# Altium schematic symbol library prj-schlib.SCHLIB: 13 symbols
Pins are listed as number, name and electrical type; pins without a type are passive.

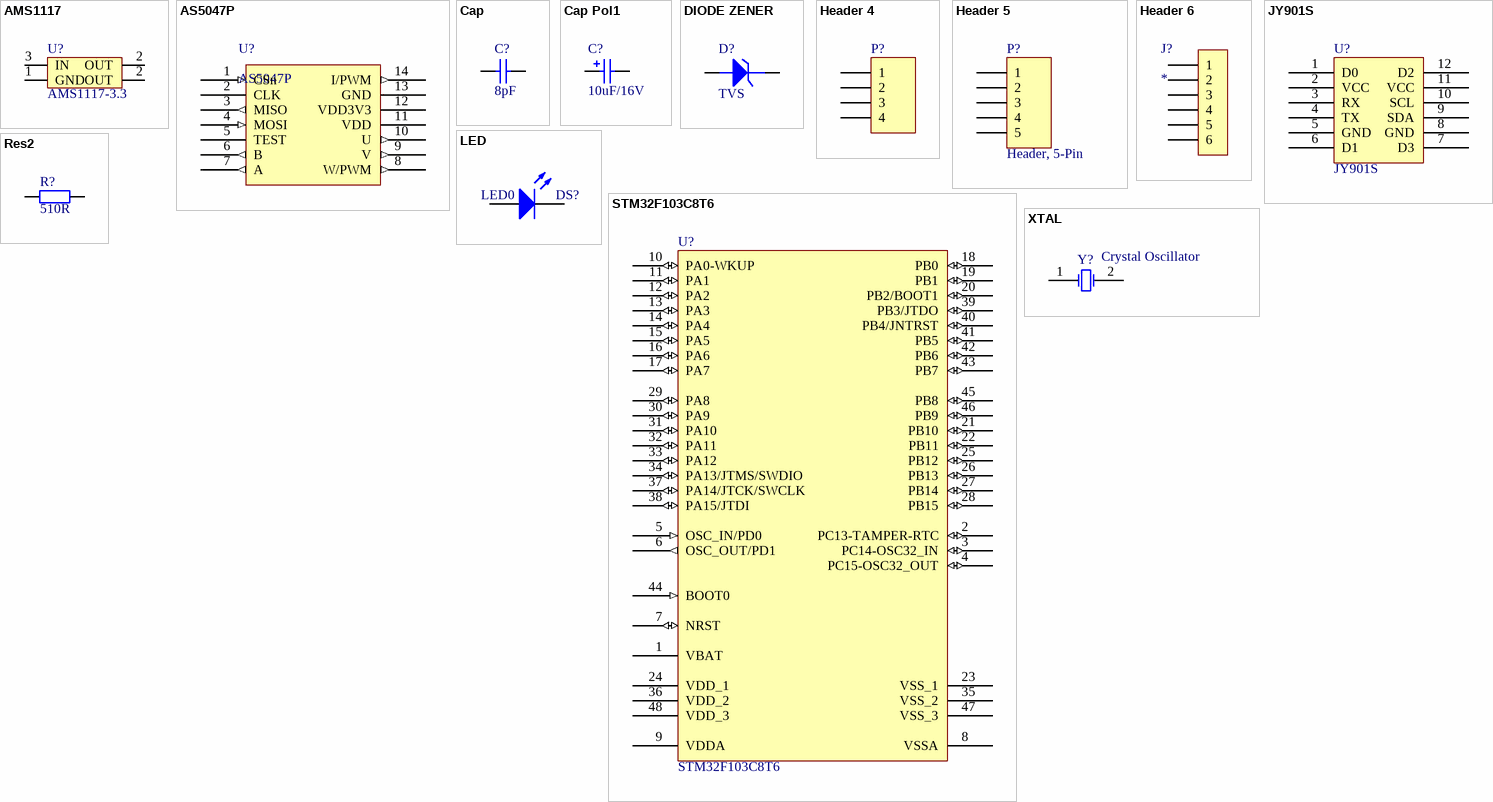
[diagram p0: symbols AMS1117 to XTAL]

## AMS1117
designator U?, comment AMS1117-3.3
footprint SOT223
pins: 1 GND, 2 OUT, 2 OUT, 3 IN
2 alternate drawings of the same symbol

## AS5047P
designator U?
footprint TSSOP-14
pins: 1 CSn (in), 2 CLK, 3 MISO (out), 4 MOSI (in), 5 TEST, 6 B (out), 7 A (out), 8 W/PWM (out), 9 V (out), 10 U (out), 11 VDD (power), 12 VDD3V3 (power), 13 GND (power), 14 I/PWM (out)

## Cap
designator C?, comment value 8pF  (hidden comment: Capacitor)
Published: 8-Jun-2000; LatestRevisionDate: 17-Jul-2002; LatestRevisionNote: Re-released for DXP Platform.; PackageReference: RAD-0.3; Publisher: Altium Limited; PackageDescription: Radial Cap, Thru-Hole; 2 Leads; 0.3 in Pin Spacing
footprint 0603C
pins: 1, 2

## Cap Pol1
designator C?, comment value 10uF/16V  (hidden comment: Polarized Capacitor (Radial))
Published: 8-Jun-2000; LatestRevisionDate: 17-Jul-2002; LatestRevisionNote: Re-released for DXP Platform.; PackageReference: RB7.6-15; Publisher: Altium Limited
footprint TAJ-A/3216
pins: 1, 2
1 alternate drawing of the same symbol

## DIODE ZENER
designator D?, comment TVS
footprint SMB/DO-214AA (塑封二极管)
pins: A, K

## Header 4
designator P?, comment Header, 4-Pin  (value not drawn)
LatestRevisionDate: 17-Jul-2002; LatestRevisionNote: Re-released for DXP Platform.; Publisher: Altium Limited
footprint XH4/2.54mm/180
pins: 1, 2, 3, 4

## Header 5
designator P?, comment Header, 5-Pin
LatestRevisionDate: 17-Jul-2002; LatestRevisionNote: Re-released for DXP Platform.; Publisher: Altium Limited
footprint 5P_SMD
footprint Pin HDR1X5/2.54mm-S
pins: 1, 2, 3, 4, 5

## Header 6
designator J?
footprint Pin HDR1X6/2.54mm-S
footprint 6P_SMD
pins: 1, 2, 3, 4, 5, 6

## JY901S
designator U?
footprint JY901S
pins: 1 D0, 2 VCC, 3 RX, 4 TX, 5 GND, 6 D1, 7 D3, 8 GND, 9 SDA, 10 SCL, 11 VCC, 12 D2

## LED
designator DS?, comment LED0
Typical RED GaAs LED; Published: 8-Jun-2000; LatestRevisionDate: 08-Jul-2005; LatestRevisionNote: Mech Layer 1 removed.; PackageReference: LED-1; Publisher: Altium Limited; PackageDescription: LED; 2 Leads
simulation model LED1 (Diode)
footprint LED-0805R; pin to pad 1>A 2>K
pins: 1 A, 2 K

## Res2
designator R?, comment 510R
Resistor; Published: 8-Jun-2000; LatestRevisionDate: 17-Jul-2002; LatestRevisionNote: Re-released for DXP Platform.; PackageReference: AXIAL-0.4; Publisher: Altium Limited; PackageDescription: Axial Device, Thru-Hole; 2 Leads; 0.4 in Pin Spacing; Value: 510R
footprint 0603R
pins: 1, 2

## STM32F103C8T6
designator U?
footprint LQFP48 7X7
pins: 1 VBAT (power), 2 PC13-TAMPER-RTC (io), 3 PC14-OSC32_IN (io), 4 PC15-OSC32_OUT (io), 5 OSC_IN/PD0 (in), 6 OSC_OUT/PD1 (out), 7 NRST (io), 8 VSSA (power), 9 VDDA (power), 10 PA0-WKUP (io), 11 PA1 (io), 12 PA2 (io), 13 PA3 (io), 14 PA4 (io), 15 PA5 (io), 16 PA6 (io), 17 PA7 (io), 18 PB0 (io), 19 PB1 (io), 20 PB2/BOOT1 (io), 21 PB10 (io), 22 PB11 (io), 23 VSS_1 (power), 24 VDD_1 (power), 25 PB12 (io), 26 PB13 (io), 27 PB14 (io), 28 PB15 (io), 29 PA8 (io), 30 PA9 (io), 31 PA10 (io), 32 PA11 (io), 33 PA12 (io), 34 PA13/JTMS/SWDIO (io), 35 VSS_2 (power), 36 VDD_2 (power), 37 PA14/JTCK/SWCLK (io), 38 PA15/JTDI (io), 39 PB3/JTDO (io), 40 PB4/JNTRST (io), 41 PB5 (io), 42 PB6 (io), 43 PB7 (io), 44 BOOT0 (in), 45 PB8 (io), 46 PB9 (io), 47 VSS_3 (power), 48 VDD_3 (power)

## XTAL
designator Y?, comment Crystal Oscillator
Published: *; LatestRevisionDate: *; LatestRevisionNote: *; Publisher: *
footprint OSC 3215-2P
footprint OSC 5032-2P
pins: 1 OSC1, 2 OSC2
2 alternate drawings of the same symbol